# Altium footprint library Solderstation.PcbLib: 31 footprints (part 2 of 2)
Each footprint in its own frame and in the unit in brackets; x right, y up, seen from the top. Pads: shape width x height; smd on the part's side, far side on the other; paste and mask are expansions set on the pad; w line width, h text height; cw(c..) or ccw(c..) is an arc to the next point about the centre after c.
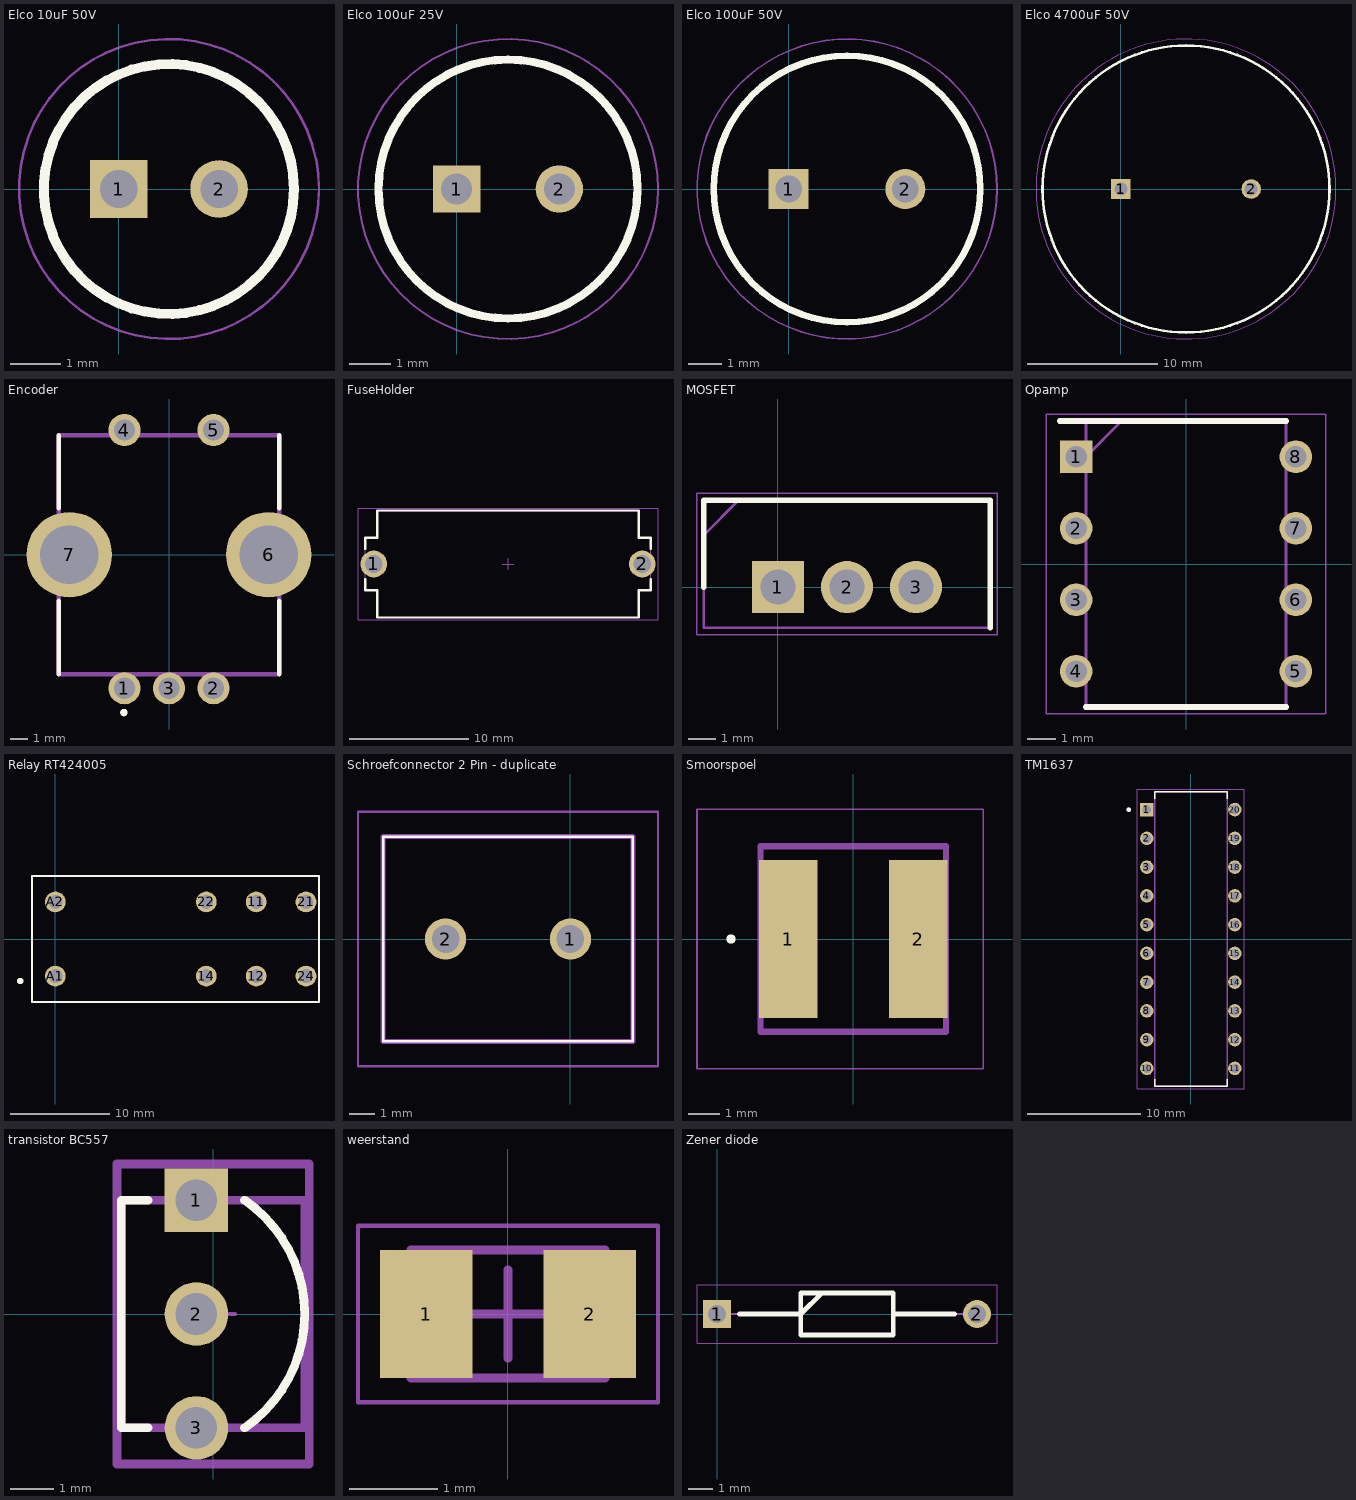
[diagram p1: the footprints below, top view; thin cyan lines are the x and y axes]

## Elco 10uF 50V [mm] "CAPPRD200W55D500H1250"
pads (2):
  rect 1.15x1.15 hole 0.75: 1(0,0)
  round 1.15 hole 0.75: 2(2,0)
Top Overlay:
  circle w0.2: c1,0 r2.5
Mechanical 13:
  circle w0.1: c1,0 r2.5
Mechanical 15:
  circle w0.05: c1,0 r3
3D body "EEU-FR1H100.stp": height 12.5, standoff -10, extent -1.75,-2.75 3.75,2.75

## Elco 100uF 25V [mm]
pads (2):
  rect 1.15x1.15 hole 0.75: 1(0,0)
  round 1.15 hole 0.75: 2(2.5,0)
Top Overlay:
  circle w0.2: c1.25,0 r3.15
Mechanical 13:
  circle w0.1: c1.25,0 r3.15
Mechanical 15:
  circle w0.05: c1.25,0 r3.65
3D body "EEU-HD1E101H.stp": height 12.7, standoff -10, extent -2.15,-3.4 4.65,3.4

## Elco 100uF 50V [mm]
pads (2):
  rect 1.2x1.2 hole 0.8: 1(0,0)
  round 1.2 hole 0.8: 2(3.5,0)
Top Overlay:
  circle w0.2: c1.75,0 r4
Mechanical 13:
  circle w0.1: c1.75,0 r4
Mechanical 15:
  circle w0.05: c1.75,0 r4.5
3D body "ESH107M050AG3KA.stp": height 12.5, standoff -10, extent -2.5,-4.25 6,4.25

## Elco 4700uF 50V [mm]
pads (2):
  rect 1.5x1.5 hole 1: 1(0,0)
  round 1.5 hole 1: 2(10,0)
Top Overlay:
  circle w0.2: c5,0 r11
Mechanical 13:
  circle w0.1: c5,0 r11
Mechanical 15:
  circle w0.05: c5,0 r11.5
3D body "ESK478M050AQ3AA.stp": height 37, standoff -10, extent -6.25,-11.25 16.25,11.25

## Encoder [mm]
pads (7):
  round 1.8 hole 1.2: 1(-2.5,-7.5) 2(2.5,-7.5) 3(0,-7.5) 4(-2.5,7) 5(2.5,7)
  round 4.8 hole 3.28: 6(5.6,0) 7(-5.6,0)
Top Overlay:
  circle w0.254: c-2.533,-8.863 r0.082
  lines w0.254: -6.2,-6.7 -6.2,-2.6 ; -6.2,2.6 -6.2,6.7 ; 6.2,-6.7 6.2,-2.6 ; 6.2,2.6 6.2,6.7
Mechanical 13:
  lines w0.254: -6.2,-6.7 6.2,-6.7 6.2,6.7 -6.2,6.7 -6.2,-6.7
3D body "PEC11R-4225F-S0024.stp": height 31.51, standoff -3.69, extent -7.005,-7.751 6.995,7.149

## FuseHolder [mm] "FUSEHOLDER BLOCKS - PCB - CLIP COVER - THT"
height 13.5
pads (2):
  round 2.25 hole 1.5: 1(-1281.3,-1270) 2(-1258.7,-1270)
Top Overlay:
  lines w0.2: -1282,-1271.26 -1282,-1272.21 -1281,-1272.21 -1281,-1274.5 -1259,-1274.5 -1259,-1272.21 -1258,-1272.21 -1258,-1271.26 ; -1282,-1268.74 -1282,-1267.79 -1281,-1267.79 -1281,-1265.5 -1259,-1265.5 -1259,-1267.79 -1258,-1267.79 -1258,-1268.74
Top 3D Body:
  lines w0.1: -1282,-1272.21 -1282,-1267.79 -1281,-1267.79 -1281,-1265.5 -1259,-1265.5 -1259,-1267.79 -1258,-1267.79 -1258,-1272.21 -1259,-1272.21 -1259,-1274.5 -1281,-1274.5 -1281,-1272.21 -1282,-1272.21
Top Courtyard:
  lines w0.05: -1270.5,-1270 -1269.5,-1270 ; -1270,-1270.5 -1270,-1269.5 ; -1282.625,-1274.7 -1257.375,-1274.7 -1257.375,-1265.3 -1282.625,-1265.3 -1282.625,-1274.7
Top Component Outline:
  lines w0.1: -1282,-1272.21 -1281,-1272.21 -1281,-1274.5 -1259,-1274.5 -1259,-1272.21 -1258,-1272.21 -1258,-1267.79 -1259,-1267.79 -1259,-1265.5 -1281,-1265.5 -1281,-1267.79 -1282,-1267.79 -1282,-1272.21
3D body "696101000002.stp": height 13.55, standoff -4.45, extent -1282,-1274.5 -1258,-1265.5

## MOSFET [mm]
pads (3):
  rect 1.92x1.92 hole 1.28: 1(0,0)
  round 1.92 hole 1.28: 2(2.54,0) 3(5.08,0)
Top Overlay:
  lines w0.2: -2.73,0 -2.73,3.195 7.81,3.195 7.81,-1.495
Mechanical 13:
  lines w0.1: -2.73,1.925 -1.46,3.195 ; -2.73,-1.495 7.81,-1.495 7.81,3.195 -2.73,3.195 -2.73,-1.495
Mechanical 15:
  lines w0.05: -2.98,-1.745 8.06,-1.745 8.06,3.445 -2.98,3.445 -2.98,-1.745
3D body "IRF9Z34NPBF.stp": height 18.84, standoff -17.51, extent -2.668,-1.495 7.748,3.195

## Opamp [mm]
pads (8):
  rect 1.159x1.159 hole 0.759: 1(-3.905,3.81)
  round 1.159 hole 0.759: 2(-3.905,1.27) 3(-3.905,-1.27) 4(-3.905,-3.81) 5(3.905,-3.81) 6(3.905,-1.27) 7(3.905,1.27) 8(3.905,3.81)
Top Overlay:
  lines w0.2: -4.485,5.08 3.556,5.08 ; -3.556,-5.08 3.556,-5.08
Mechanical 13:
  lines w0.1: -3.556,3.81 -2.286,5.08 ; -3.556,-5.08 3.556,-5.08 3.556,5.08 -3.556,5.08 -3.556,-5.08
Mechanical 15:
  lines w0.05: -4.957,-5.33 4.957,-5.33 4.957,5.33 -4.957,5.33 -4.957,-5.33
3D body "MCP6002-I_P.stp": height 5.33, standoff -3.5, extent -4.045,-4.75 4.045,4.75

## Relay RT424005 [mm]
pads (8):
  round 2.1 hole 1.4: 11(20.3,3.75) 12(20.3,-3.75) 14(15.26,-3.75) 21(25.34,3.75) 22(15.26,3.75) 24(25.34,-3.75) A1(0,-3.75) A2(0,3.75)
Top Overlay:
  circle w0.4: c-3.547,-4.246 r0.126
  lines w0.2: -2.35,-6.35 26.65,-6.35 26.65,6.35 -2.35,6.35 -2.35,-6.35
Mechanical 13:
  lines w0.2: -2.35,-6.35 26.65,-6.35 26.65,6.35 -2.35,6.35 -2.35,-6.35
3D body "RT424005.stp": height 15.86, standoff -2.94, extent -2.21,-6.35 26.79,6.35

## Schroefconnector 2 Pin - duplicate [mm]
pads (2):
  round 1.65 hole 1.1: 1(0,0) 2(-5,0)
Top Overlay:
  lines w0.1: -7.5,-4.1 2.5,-4.1 2.5,4.1 -7.5,4.1 -7.5,-4.1
Mechanical 13:
  lines w0.2: -7.5,-4.1 -7.5,4.1 2.5,4.1 2.5,-4.1 -7.5,-4.1
Mechanical 15:
  lines w0.1: -8.5,-5.1 3.5,-5.1 3.5,5.1 -8.5,5.1 -8.5,-5.1
3D body "282836-2.stp": height 10.02, standoff -3.48, extent -8.09,-4.1 2.51,4.1

## Smoorspoel [mm] "10uH"
pads (2):
  rect 1.9x5.1 smd: 1(-2.1,0) 2(2.1,0)
Top Overlay:
  circle w0.2: c-3.95,0 r0.05
Mechanical 13:
  lines w0.2: -3,-3 -3,3 3,3 3,-3 -3,-3
Mechanical 15:
  lines w0.05: -5.05,-4.2 -5.05,4.2 4.2,4.2 4.2,-4.2 -5.05,-4.2
3D body "VLS6045EX-100M-H.stp": height 4.5, standoff 0.01, extent -3.15,-3 3.15,3

## TM1637 [mm]
pads (20):
  rect 1.19x1.19 hole 0.79: 1(-3.89,11.43)
  round 1.19 hole 0.79: 2(-3.89,8.89) 3(-3.89,6.35) 4(-3.89,3.81) 5(-3.89,1.27) 6(-3.89,-1.27) 7(-3.89,-3.81) 8(-3.89,-6.35) 9(-3.89,-8.89) 10(-3.89,-11.43) 11(3.89,-11.43) 12(3.89,-8.89) 13(3.89,-6.35) 14(3.89,-3.81) 15(3.89,-1.27) 16(3.89,1.27) 17(3.89,3.81) 18(3.89,6.35) 19(3.89,8.89) 20(3.89,11.43)
Top Overlay:
  circle w0.2: c-5.485,11.43 r0.1
  lines w0.127: -3.2,-12.375 -3.2,-13 3.2,-13 3.2,-12.375 ; -3.2,12.375 -3.2,13 3.2,13 3.2,12.375
Mechanical 13:
  circle w0.2: c-5.485,11.43 r0.1
  lines w0.127: -3.2,-13 3.2,-13 3.2,13 -3.2,13 -3.2,-13
Mechanical 15:
  lines w0.05: -4.735,-13.25 -4.735,13.25 4.735,13.25 4.735,-13.25 -4.735,-13.25
3D body "step_temp.STEP": height 4.31, standoff -3.6, extent -4.03,-13 4.03,13

## transistor BC557 [mm]
pads (3):
  rect 1.45x1.45 hole 0.95 paste-2539.97 mask+0: 1(-0.38,2.6)
  round 1.45 hole 0.95 paste-2539.97 mask+0: 2(-0.38,0) 3(-0.38,-2.6)
Top Overlay:
  lines w0.2: -1.48,-2.6 -2.095,-2.6 -2.095,2.6 -1.48,2.6 ; 0.72,-2.6 ccw(c-1.058,0) 0.72,2.6
Top 3D Body:
  lines w0.2: -2.095,-2.6 -2.095,2.6 2.095,2.6 2.095,-2.6 -2.095,-2.6
Top Courtyard:
  lines w0.2: -2.195,-3.425 -2.195,3.425 2.195,3.425 2.195,-3.425 -2.195,-3.425
Top Assembly:
  lines w0.2: -2.195,-3.425 -2.195,3.425 2.195,3.425 2.195,-3.425 -2.195,-3.425
  text ".Designator" at 0,-0.001 h1
Top Component Center:
  lines w0.1: -0.5,0 0.5,0 ; 0,-0.5 0,0.5
3D body "Trans_onsemi_KSA733YTA_eec.STEP": height 0.25, standoff 0, extent -2.195,-3.425 2.195,3.425

## weerstand [mm] "Chip Resistor, 2-Leads, Body 2.00x1.25mm, IPC Medium Density"
height 0.5
pads (2):
  rect 1.05x1.45 smd: 1(-0.925,0) 2(0.925,0)
Mechanical 13:
  lines w0.1: -1.1,-0.725 -1.1,0.725 1.1,0.725 1.1,-0.725 -1.1,-0.725
Mechanical 15:
  lines w0.05: -1.7,-1 -1.7,1 1.7,1 1.7,-1 -1.7,-1
  lines w0.1: -0.5,0 0.5,0 ; 0,-0.5 0,0.5
3D body: height 0.5, standoff 0, extent -0.8,-0.725 0.8,0.725
3D body: height 0.5, standoff 0, extent -1.1,-0.725 -0.8,0.725
3D body: height 0.5, standoff 0, extent 0.8,-0.725 1.1,0.725

## Zener diode [mm] "DIOAD1068W53L380D172"
pads (2):
  rect 1.15x1.15 hole 0.75: 1(0,0)
  round 1.15 hole 0.75: 2(10.7,0)
Top Overlay:
  lines w0.2: 0.925,0 3.448,0 4.308,0.86 ; 7.252,0 9.775,0 ; 3.448,-0.86 3.448,0.86 7.252,0.86 7.252,-0.86 3.448,-0.86
Mechanical 13:
  lines w0.1: 0,0 3.448,0 4.308,0.86 ; 7.252,0 10.7,0 ; 3.448,-0.86 3.448,0.86 7.253,0.86 7.253,-0.86 3.448,-0.86
Mechanical 15:
  lines w0.05: -0.825,-1.21 -0.825,1.21 11.525,1.21 11.525,-1.21 -0.825,-1.21
3D body "1N5231CTR.stp": height 1.9, standoff -1.91, extent -0.264,-0.953 10.951,0.953